# EAGLE library part 1-1393260-3 (library Relays)
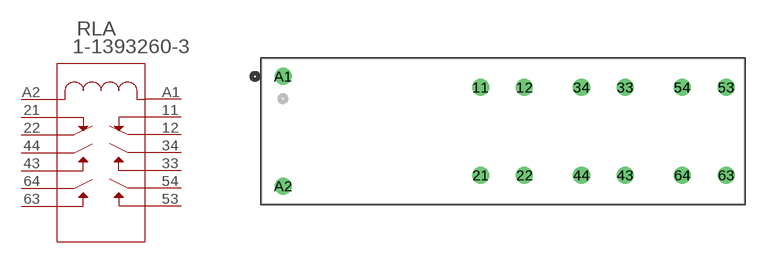
[diagram p71: symbol with the pads of RELAY14_1-1393260-0; footprint RELAY14_1-1393260-0]

Designator prefix RLA

## 1-1393260-3 (BUILT_BY: Digital_Papaya_Team; CATEGORY: Power Relays; CONTACT_ARRANGEMENT: 4 Form A (NO) + 2 Form B (NC); COPYRIGHT: Copyright (C) 2018 Accelerated Designs. All rights reserved; DATASHEET: https://www.te.com/commerce/DocumentDelivery/DDEController?Action=showdoc&DocId=Data+Sheet%7FSR6%7F0617%7Fpdf%7FEnglish%7FENG_DS_SR6_0617.pdf%7F1-1393260-3; DESCRIPTION: V23050-A1110-A542; MANUFACTURER_PART_NUMBER: 1-1393260-3; MAXIMUM_SWITCHING_CURRENT: -; MAXIMUM_SWITCHING_VOLTAGE: -; PART_STATUS: active; PRODUCT_TYPE: -; RELAY_TYPE: -; SERIES: SCHRACK Force Guided Relay SR6 A/B/C/V; TE_PART_NUMBER: V23050A1110A542 (1-1393260-3); VENDOR: TE Connectivity)  [RELAY14_1-1393260-0]
11  11  pas
12  12  pas
21  21  pas
22  22  pas
33  33  pas
34  34  pas
43  43  pas
44  44  pas
53  53  pas
54  54  pas
63  63  pas
64  64  pas
A1  A1  pas
A2  A2  pas

## Footprint RELAY14_1-1393260-0 (pad centres in mm)
drill 1.295 pad 1.803: 11 22.504,-1.245; 12 27.508,-1.245; 21 22.504,-11.252; 22 27.508,-11.252; 33 38.989,-1.245; 34 34.011,-1.245; 43 38.989,-11.252; 44 34.011,-11.252; 53 50.495,-1.245; 54 45.491,-1.245; 63 50.495,-11.252; 64 45.491,-11.252; A1 0,0; A2 0,-12.497